# EAGLE library part SM125-IC (library Sonmicro)
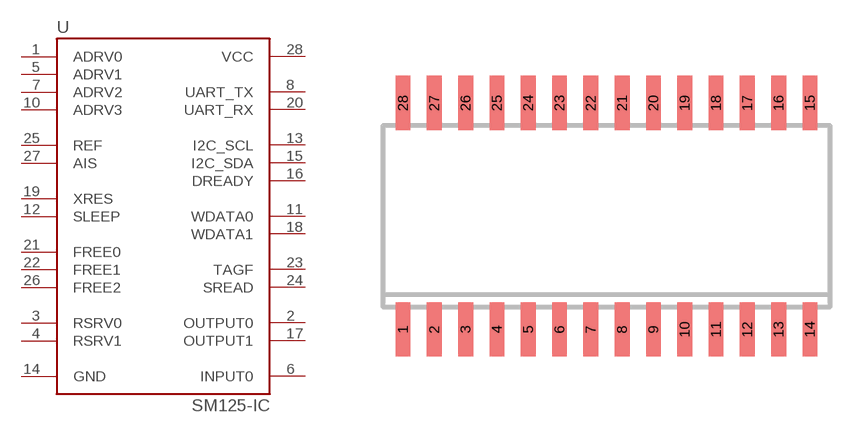
[diagram p1: symbol with the pads of SOIC28; footprint SOIC28]

Designator prefix -

## SM125-IC  [SOIC28]
1  ADRV0
2  OUTPUT0
3  RSRV0
4  RSRV1
5  ADRV1
6  INPUT0
7  ADRV2
8  UART_TX
10  ADRV3
11  WDATA0
12  SLEEP
13  I2C_SCL
14  GND
15  I2C_SDA
16  DREADY
17  OUTPUT1
18  WDATA1
19  XRES
20  UART_RX
21  FREE0
22  FREE1
23  TAGF
24  SREAD
25  REF
26  FREE2
27  AIS
28  VCC

## Footprint SOIC28 (pad centres in mm)
SMALL OUTLINE INTEGRATED CIRCUIT wide body 7.5 mm/JEDEC MO-119AB
smd 0.6 x 2.2: 1 -8.255,-4.6; 2 -6.985,-4.6; 3 -5.715,-4.6; 4 -4.445,-4.6; 5 -3.175,-4.6; 6 -1.905,-4.6; 7 -0.635,-4.6; 8 0.635,-4.6; 9 1.905,-4.6; 10 3.175,-4.6; 11 4.445,-4.6; 12 5.715,-4.6; 13 6.985,-4.6; 14 8.255,-4.6; 15 8.255,4.6; 16 6.985,4.6; 17 5.715,4.6; 18 4.445,4.6; 19 3.175,4.6; 20 1.905,4.6; 21 0.635,4.6; 22 -0.635,4.6; 23 -1.905,4.6; 24 -3.175,4.6; 25 -4.445,4.6; 26 -5.715,4.6; 27 -6.985,4.6; 28 -8.255,4.6